# EAGLE library part BUBBLER_CARD (library Pygmy)
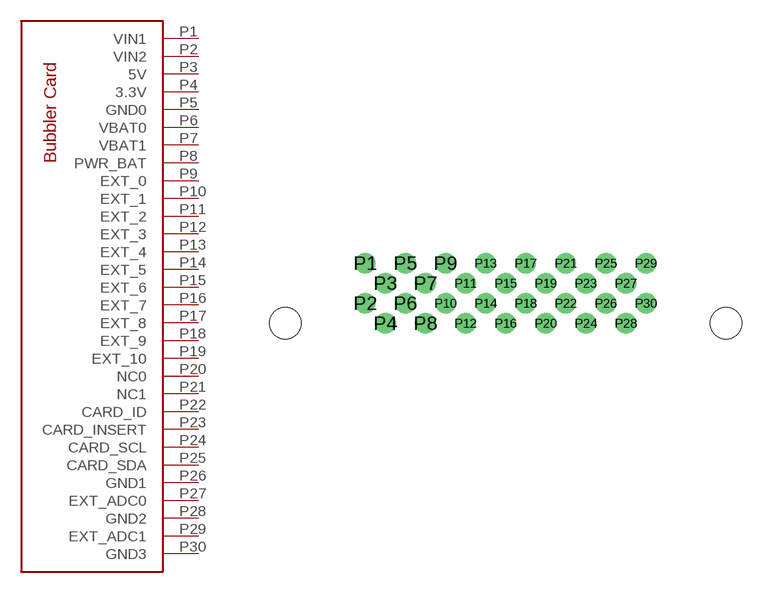
[diagram p69: symbol with the pads of CONNECTOR-JAE-TX24-30M; footprint CONNECTOR-JAE-TX24-30M]

Designator prefix -

## BUBBLER_CARD  [CONNECTOR-JAE-TX24-30M]
P1  VIN1
P2  VIN2
P3  5V
P4  3.3V
P5  GND0
P6  VBAT0
P7  VBAT1
P8  PWR_BAT
P9  EXT_0
P10  EXT_1
P11  EXT_2
P12  EXT_3
P13  EXT_4
P14  EXT_5
P15  EXT_6
P16  EXT_7
P17  EXT_8
P18  EXT_9
P19  EXT_10
P20  NC0
P21  NC1
P22  CARD_ID
P23  CARD_INSERT
P24  CARD_SCL
P25  CARD_SDA
P26  GND1
P27  EXT_ADC0
P28  GND2
P29  EXT_ADC1
P30  GND3

## Footprint CONNECTOR-JAE-TX24-30M (pad centres in mm)
drill 0.8: P1 -8.89,3.81; P2 -8.89,1.27; P3 -7.62,2.54; P4 -7.62,0; P5 -6.35,3.81; P6 -6.35,1.27; P7 -5.08,2.54; P8 -5.08,0; P9 -3.81,3.81; P10 -3.81,1.27; P11 -2.54,2.54; P12 -2.54,0; P13 -1.27,3.81; P14 -1.27,1.27; P15 0,2.54; P16 0,0; P17 1.27,3.81; P18 1.27,1.27; P19 2.54,2.54; P20 2.54,0; P21 3.81,3.81; P22 3.81,1.27; P23 5.08,2.54; P24 5.08,0; P25 6.35,3.81; P26 6.35,1.27; P27 7.62,2.54; P28 7.62,0; P29 8.89,3.81; P30 8.89,1.27
hole 2 at -13.97,0
hole 2 at 13.97,0